# Altium schematic symbol library SMD Diodes.SchLib: 27 symbols
Pins are listed as number, name and electrical type; pins without a type are passive.

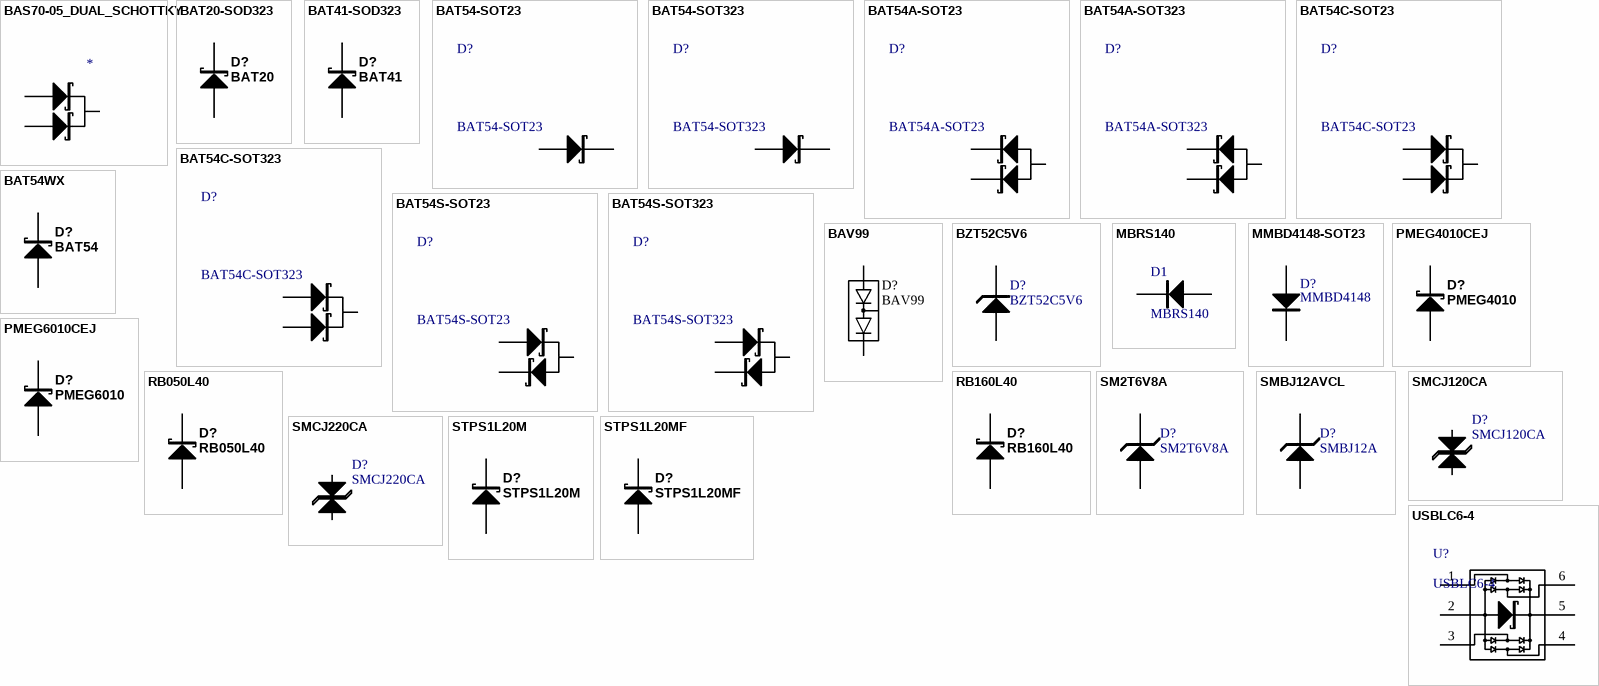
[diagram p0: symbols BAS70-05_DUAL_SCHOTTKY to USBLC6-4]

## BAS70-05_DUAL_SCHOTTKY
designator ?
pins: A1, A2, K

## BAT20-SOD323
designator D?, comment BAT20
Schottky Diode SOD323 1A 23V; Supplier 1: Digi-Key; Supplier Part Number 1: 497-3381-2-ND
footprint SOD323
pins: A, K

## BAT41-SOD323
designator D?, comment BAT41
Schottky Diode SOD323 1A 23V; Manufacturer: STMicroelectronics; Manufacturer Part Number: BAT41JFILM; Capacitance @ Vr, F: 10pF @ 1V, 1MHz; Voltage - DC Reverse (Vr) (Max): 100V; Description: DIODE SCHOTTKY LOCAP SGL SOD-323; Current - Reverse Leakage @ Vr: 100nA @ 50V; Speed: Small Signal =< 200mA (Io), Any Speed; Voltage - Forward (Vf) (Max) @ If: 1V @ 200mA; Current - Average Rectified (Io): 200mA (DC); REEL: D4; Supplier 1: Digi-Key; Supplier Part Number 1: 497-5704-2-ND; Category: Discrete Semiconductor Products; Supplier: Digi-Key; Package / Case: SOD-323; Diode Type: Schottky; Mounting Type: Surface Mount; RoHS: RoHS Compliant; Supplier Part Number: 497-5704-2-ND; Reverse Recovery Time (trr): -; Packaging: Tape & Reel (TR); Supplier Device Package: *
footprint SOD323
pins: A, K

## BAT54-SOT23
designator D?
SINGLE SHOTTKY DIODE; Manufacturer: NXP Semiconductors; Manufacturer Part Number: BAT54,215; Capacitance @ Vr, F: 10pF @ 1V, 1MHz; Diode Type: Schottky; Current - Average Rectified (Io): 200mA (DC); Voltage - DC Reverse (Vr) (Max): 30V; Reverse Recovery Time (trr): 5ns; Current - Reverse Leakage @ Vr: 2µA @ 25V; Speed: Small Signal =< 200mA (Io), Any Speed; Voltage - Forward (Vf) (Max) @ If: 800mV @ 100mA; Description: DIODE SCHOTTKY 30V 200MA SOT23; Supplier 1: Digi-Key; Supplier Part Number 1: 568-1610-1-ND; Mounting Type: Surface Mount; Package / Case: SOT-23-3, TO-236-3, Micro3™, SSD3, SST3; Packaging: Cut Tape (CT); Category: Discrete Semiconductor Products; RoHS: RoHS Compliant; Supplier Part Number: 568-1610-1-ND; Supplier: Digi-Key
footprint SOT23-123
pins: 1, 3

## BAT54-SOT323
designator D?
SINGLE SHOTTKY DIODE; Manufacturer: NXP Semiconductors; Manufacturer Part Number: BAT54W,115; Capacitance @ Vr, F: 10pF @ 1V, 1MHz; Diode Type: Schottky; Current - Average Rectified (Io): 200mA (DC); Voltage - DC Reverse (Vr) (Max): 30V; Reverse Recovery Time (trr): 5ns; Current - Reverse Leakage @ Vr: 2µA @ 25V; Speed: Small Signal =< 200mA (Io), Any Speed; Voltage - Forward (Vf) (Max) @ If: 800mV @ 100mA; Description: DIODE SCHOTTKY 30V 200MA SOT323; Supplier 1: Digi-Key; Supplier Part Number 1: 568-1610-1-ND; Mounting Type: Surface Mount; Package / Case: SC-70-3, SOT-323-3; Packaging: Digi-Reel®; Category: Discrete Semiconductor Products; RoHS: RoHS Compliant; Supplier Part Number: 568-3416-6-ND; Supplier: Digi-Key; Supplier 2: Digi-Key; Supplier Part Number 2: 568-3416-6-ND
footprint SOT323-123 (SOT323 WITH PINS NUMBERS)
pins: 1, 3

## BAT54A-SOT23
designator D?
DUAL SCHOTTKY DIODE COMMON ANODE; Manufacturer Part Number: BAT54A,215; Manufacturer: NXP Semiconductors; Voltage - Forward (Vf) (Max) @ If: 800mV @ 100mA; Reverse Recovery Time (trr): 5ns; Current - Average Rectified (Io) (per Diode): 200mA (DC); Speed: Small Signal =< 200mA (Io), Any Speed; Voltage - DC Reverse (Vr) (Max): 30V; Current - Reverse Leakage @ Vr: 2µA @ 25V; Diode Configuration: 1 Pair Common Anode; Description: DIODE SCHOTTKY 30V DUAL CA SOT23; Supplier 1: Digi-Key; Supplier Part Number 1: 568-1611-2-ND; Packaging: Tape & Reel (TR); Package / Case: SOT-23-3, TO-236-3, Micro3™, SSD3, SST3; Diode Type: Schottky; Mounting Type: Surface Mount; Supplier Part Number: 568-1611-2-ND; RoHS: RoHS Compliant; Supplier: Digi-Key; Category: Discrete Semiconductor Products
footprint SOT23-123
pins: 1, 2, 3

## BAT54A-SOT323
designator D?
DUAL SCHOTTKY DIODE COMMON ANODE; Manufacturer: NXP Semiconductors; Manufacturer Part Number: BAT54AW,115; Diode Configuration: 1 Pair Common Anode; Current - Average Rectified (Io) (per Diode): 200mA (DC); Reverse Recovery Time (trr): 5ns; Description: DIODE SCHOTTKY 30V 200MA SOT323; Voltage - Forward (Vf) (Max) @ If: 800mV @ 100mA; Current - Reverse Leakage @ Vr: 2µA @ 25V; Speed: Small Signal =< 200mA (Io), Any Speed; Voltage - DC Reverse (Vr) (Max): 30V; Supplier 1: Digi-Key; Supplier Part Number 1: 568-3413-1-ND; Category: Discrete Semiconductor Products; Supplier Part Number: 568-3413-1-ND; Supplier: Digi-Key; Mounting Type: Surface Mount; RoHS: RoHS Compliant; Package / Case: SC-70-3, SOT-323-3; Diode Type: Schottky; Packaging: Cut Tape (CT)
footprint SOT323-123 (Footprint not found)
pins: 1, 2, 3

## BAT54C-SOT23
designator D?
DUAL SCHOTTKY DIODE COMMON CATHODE; Manufacturer: NXP Semiconductors; Manufacturer Part Number: BAT54C,215; Reverse Recovery Time (trr): 5ns; Current - Average Rectified (Io) (per Diode): 200mA (DC); Speed: Small Signal =< 200mA (Io), Any Speed; Diode Configuration: 1 Pair Common Cathode; Voltage - DC Reverse (Vr) (Max): 30V; Current - Reverse Leakage @ Vr: 2µA @ 25V; Voltage - Forward (Vf) (Max) @ If: 800mV @ 100mA; Description: DIODE SCHOTTKY 30V DUAL CC SOT23; Supplier 1: Digi-Key; Supplier Part Number 1: 568-1612-1-ND; Package / Case: SOT-23-3, TO-236-3, Micro3™, SSD3, SST3; Packaging: Cut Tape (CT); Mounting Type: Surface Mount; Diode Type: Schottky; Category: Discrete Semiconductor Products; RoHS: RoHS Compliant; Supplier Part Number: 568-1612-1-ND; Supplier: Digi-Key
footprint SOT23-123
pins: 1, 2, 3

## BAT54C-SOT323
designator D?
DUAL SCHOTTKY DIODE COMMON CATHODE; Manufacturer: NXP Semiconductors; Manufacturer Part Number: BAT54CW,115; Diode Configuration: 1 Pair Common Cathode; Reverse Recovery Time (trr): 5ns; Speed: Small Signal =< 200mA (Io), Any Speed; Voltage - DC Reverse (Vr) (Max): 30V; Current - Reverse Leakage @ Vr: 2µA @ 25V; Voltage - Forward (Vf) (Max) @ If: 800mV @ 100mA; Current - Average Rectified (Io) (per Diode): 200mA (DC); Description: DIODE SCHOTTKY 30V DL CC SOT323; Supplier 1: Digi-Key; Supplier Part Number 1: 568-1613-1-ND; Diode Type: Schottky; Mounting Type: Surface Mount; Package / Case: SC-70-3, SOT-323-3; Packaging: Cut Tape (CT); RoHS: RoHS Compliant; Supplier: Digi-Key; Category: Discrete Semiconductor Products; Supplier Part Number: 568-1613-1-ND
footprint SOT323-123
pins: 1, 2, 3

## BAT54S-SOT23
designator D?
DUAL SCHOTTKY DIODE SERIES; Manufacturer Part Number: BAT54S,215; Manufacturer: NXP Semiconductors; Voltage - DC Reverse (Vr) (Max): 30V; Speed: Small Signal =< 200mA (Io), Any Speed; Current - Reverse Leakage @ Vr: 2µA @ 25V; Diode Configuration: 1 Pair Series Connection; Voltage - Forward (Vf) (Max) @ If: 800mV @ 100mA; Current - Average Rectified (Io) (per Diode): 200mA (DC); Reverse Recovery Time (trr): 5ns; Description: DIODE SCHOTTKY 30V DUAL SOT23; Supplier 1: Digi-Key; Supplier Part Number 1: 568-1614-1-ND; Diode Type: Schottky; Package / Case: SOT-23-3, TO-236-3, Micro3™, SSD3, SST3; Packaging: Cut Tape (CT); Mounting Type: Surface Mount; Supplier Part Number: 568-1614-1-ND; RoHS: RoHS Compliant; Supplier: Digi-Key; Category: Discrete Semiconductor Products
footprint SOT23-123
pins: 1, 2, 3

## BAT54S-SOT323
designator D?
DUAL SCHOTTKY DIODE SERIES; Manufacturer: NXP Semiconductors; Manufacturer Part Number: BAT54SW,115; Voltage - Forward (Vf) (Max) @ If: 800mV @ 100mA; Current - Reverse Leakage @ Vr: 2µA @ 25V; Speed: Small Signal =< 200mA (Io), Any Speed; Diode Configuration: 1 Pair Series Connection; Current - Average Rectified (Io) (per Diode): 200mA (DC); Voltage - DC Reverse (Vr) (Max): 30V; Reverse Recovery Time (trr): 5ns; Description: DIODE SCHOTTKY 30V DUAL SOT323; Supplier 1: Digi-Key; Supplier Part Number 1: 568-1615-2-ND; Mounting Type: Surface Mount; Packaging: Tape & Reel (TR); Package / Case: SC-70-3, SOT-323-3; Diode Type: Schottky; Supplier Part Number: 568-1615-2-ND; Category: Discrete Semiconductor Products; Supplier: Digi-Key; RoHS: RoHS Compliant
footprint SOT323-123
pins: 1, 2, 3

## BAT54WX
designator D?, comment BAT54
Schottky Diode SOD523; Manufacturer: Micro Commercial Co; Manufacturer Part Number: BAT54WX-TP; Description: DIODE SCHOTTKY 30V SOD-523; Reel: D10; Supplier 1: Digi-Key; Supplier Part Number 1: BAT54WX-TPTR-ND
footprint SOD523
pins: A, K

## BAV99
designator D?
DOUBLE SHOTTKY DIODE; Supplier 1: Digi-Key; Supplier Part Number 1: BAV99FSTR-ND
footprint SOT23-DUODIODE
pins: A, AC, C

## BZT52C5V6
designator D?
DIODE / DIODE-B; Supplier 1: Digi-Key; Supplier Part Number 1: BZT52C5V6-FDITR-ND
footprint sod-123
pins: A, K

## MBRS140
designator D1
DIODE; Supplier 1: Digi-Key; Supplier Part Number 1: MBRS140FSTR-ND
footprint DIODE-SMA
pins: A, K

## MMBD4148-SOT23
designator D?, comment MMBD4148
DIODE 4148 SOT23; Manufacturer Part Number: MMBD4148-7-F; Manufacturer: Diodes Inc; Capacitance @ Vr, F: 2pF @ 0V, 1MHz; Speed: Small Signal =< 200mA (Io), Any Speed; Current - Reverse Leakage @ Vr: 1µA @ 75V; Diode Type: Standard; Current - Average Rectified (Io): 200mA; Voltage - Forward (Vf) (Max) @ If: 1.25V @ 150mA; Description: DIODE SWITCH 75V 350MW SOT23-3; Reverse Recovery Time (trr): 4ns; Voltage - DC Reverse (Vr) (Max): 75V; Supplier 1: Digi-Key; Category: Discrete Semiconductor Products; Supplier: Digi-Key; RoHS: RoHS Compliant; Packaging: Tape & Reel (TR); Package / Case: SOT-23-3, TO-236-3, Micro3™, SSD3, SST3; Mounting Type: Surface Mount; Supplier Part Number 1: MMBD4148-FDITR-ND; Supplier Part Number: MMBD4148-FDITR-ND
footprint SOT23-DIODE (SOT23 WITH A/K PIN NUMBERS)
pins: A, K

## PMEG4010CEJ
designator D?, comment PMEG4010
Schottky Diode SOD323 1A 40V; REEL: *
footprint SOD323
pins: A, K

## PMEG6010CEJ
designator D?, comment PMEG6010
Schottky Diode SOD323 1A 60V; Manufacturer: NXP Semiconductors; Manufacturer Part Number: PMEG6010CEJ,115; Description: SCHOTTKY RECT 60V 1A SOD323F; REEL: *; Supplier 1: Digi-Key; Supplier Part Number 1: 568-4138-6-ND
footprint SOD323
pins: A, K

## RB050L40
designator D?
Schottky Diode SOD106; Reel: D2; Supplier 1: Digi-Key; Supplier Part Number 1: RB050L-40TE25TR-ND
footprint SOD-106
pins: A, K

## RB160L40
designator D?
Schottky Diode SOD106
footprint SOD-123
pins: A, K

## SM2T6V8A
designator D?
Transient Surpression Diode (Transil); Manufacturer: STMicroelectronics; Description: TRANSIL 200W UNIDIRECT DO-216AA; Reel: D6; Manufacturer Part Number: SM2T6V8A; Supplier Part Number: 497-7879-2-ND; Supplier: Digi-Key; Supplier 1: Digi-Key; Supplier Part Number 1: 497-7879-2-ND
footprint DO216AA (DO216AA ST-MITE)
pins: A, K
2 alternate drawings of the same symbol

## SMBJ12AVCL
designator D?, comment SMBJ12A
Transient Surpression Diode (Transil); Manufacturer: STMicroelectronics; Manufacturer Part Number: SMBJ12CA-TR; Description: TVS 600W 12V BI-DIR DO-214AA; Supplier 1: Digi-Key; Supplier Part Number 1: 497-3002-2-ND
footprint DO214AA
pins: A, K
2 alternate drawings of the same symbol

## SMCJ120CA
designator D?
Transient Surpression Diode TVS; Supplier 1: Digi-Key; Supplier Part Number 1: SMCJ120CABTR-ND
footprint DIODE-SMC
pins: A, K
2 alternate drawings of the same symbol

## SMCJ220CA
designator D?
Transient Surpression Diode TVS; Supplier 1: Digi-Key; Supplier Part Number 1: SMCJ220CALFCT-ND
footprint DIODE-SMC
pins: A, K
2 alternate drawings of the same symbol

## STPS1L20M
designator D?
Schottky Diode STMITE DO216AA; Manufacturer Part Number: STPS1L20MF; Manufacturer: STMicroelectronics; Description: DIODE SCHOTTKY 20V 1A DO222AA; Reel: MAN; Supplier: Digi-Key; Supplier 1: Digi-Key; Supplier Part Number 1: 497-3211-2-ND
footprint DO216AA (Footprint not found)
pins: A, K

## STPS1L20MF
designator D?
Schottky Diode STMITE DO222AA; Manufacturer: STMicroelectronics; Description: DIODE SCHOTTKY 20V 1A DO222AA; Supplier: Digi-Key; Manufacturer Part Number: STPS1L20MF; Supplier Part Number: 497-8024-2-ND; Supplier 1: Digi-Key; Supplier Part Number 1: 497-8024-2-ND; Reel: *
footprint DO222AA (Footprint not found)
pins: A, K

## USBLC6-4
designator U?
USB ESD PROTECTION; Supplier 1: Digi-Key; Supplier Part Number 1: 497-4492-2-ND
footprint SOT23-6
pins: 1 P1, 2 GND, 3 P2, 4 P3, 5 VBUS, 6 P4